# Altium footprint library 音频接口.PcbLib: 10 footprints
Each footprint in its own frame and in the unit in brackets; x right, y up, seen from the top. Pads: shape width x height; smd on the part's side, far side on the other; paste and mask are expansions set on the pad; w line width, h text height; cw(c..) or ccw(c..) is an arc to the next point about the centre after c.
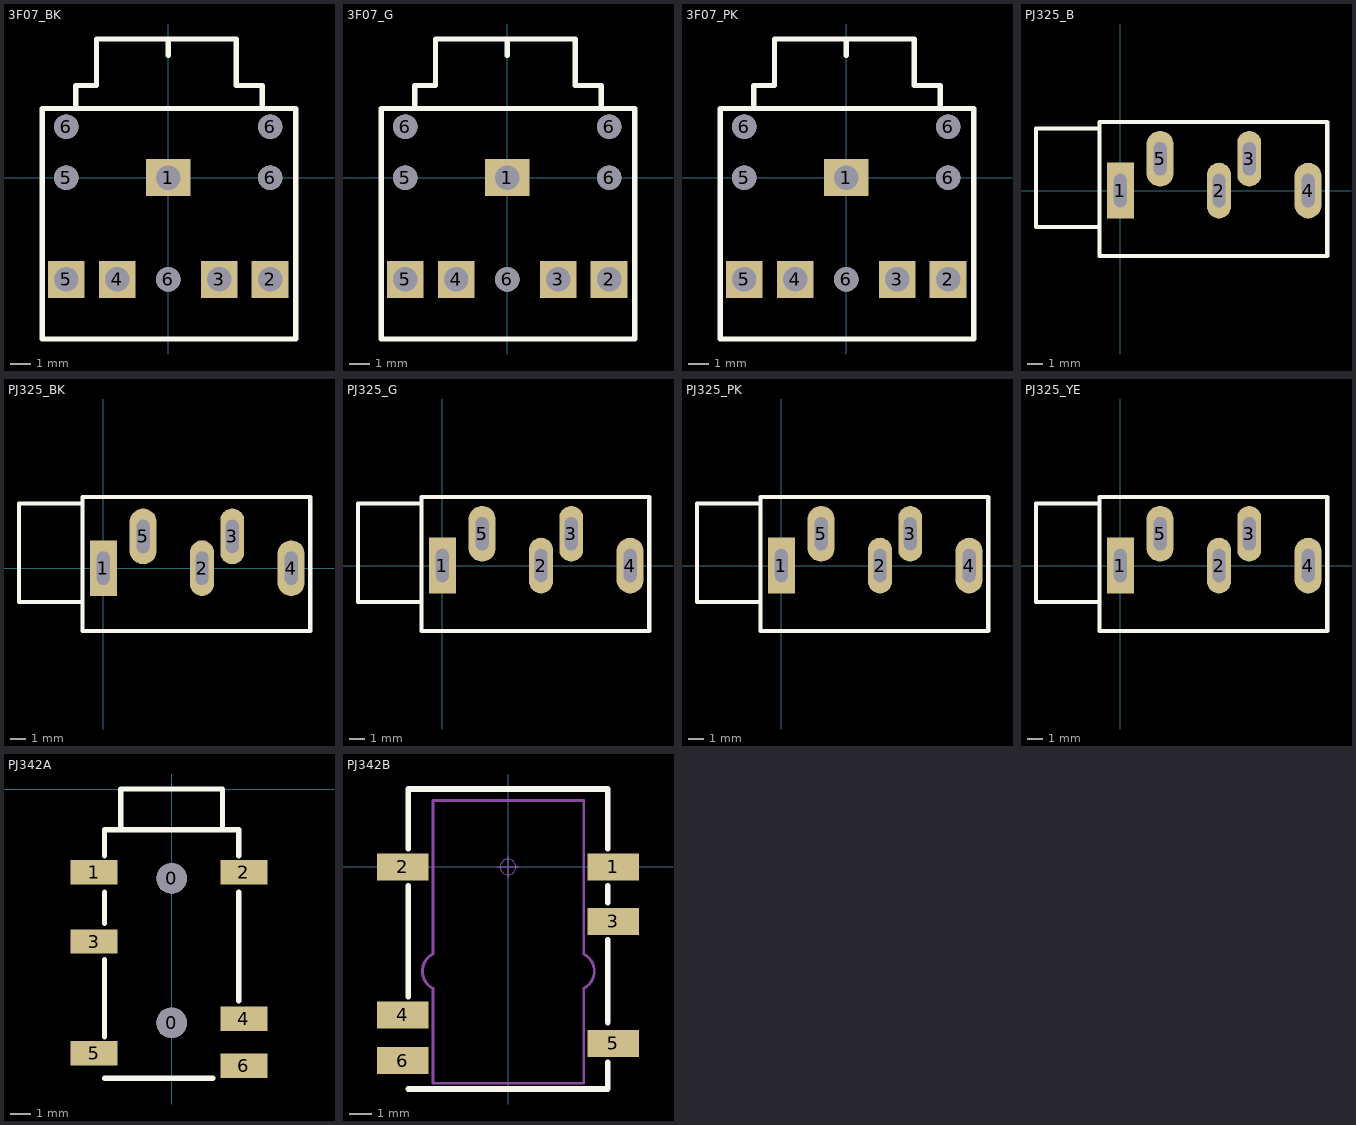
[diagram p0: the footprints below, top view; thin cyan lines are the x and y axes]

## 3F07_BK [mm] "黑色，14.2*12*5mm"
pads (10):
  rect 2.2x1.8 hole 1.2: 1(0,0)
  rect 1.8x1.8 hole 1.2: 2(5,-5) 3(2.5,-5) 4(-2.5,-5) 5(-5,-5)
  round 1.2 hole 1.2 unplated: 5(-5,0) 6(-5,2.5) 6(0,-5) 6(5,0) 6(5,2.5)
Top Overlay:
  lines w0.254: -4.532,3.382 -4.532,4.525 -3.516,4.525 -3.516,6.8 3.342,6.8 3.342,4.525 4.612,4.525 4.612,3.382 ; 0,6 0,6.8 ; -6.183,-7.921 -6.183,3.382 6.263,3.382 6.263,-7.921 -6.183,-7.921
3D body: height 5.6, standoff -2.9, extent -6,-7.7 6,6.5

## 3F07_G [mm] "绿色，14.2*12*5mm"
pads (10):
  rect 2.2x1.8 hole 1.2: 1(0,0)
  rect 1.8x1.8 hole 1.2: 2(5,-5) 3(2.5,-5) 4(-2.5,-5) 5(-5,-5)
  round 1.2 hole 1.2 unplated: 5(-5,0) 6(-5,2.5) 6(0,-5) 6(5,0) 6(5,2.5)
Top Overlay:
  lines w0.254: -4.532,3.382 -4.532,4.525 -3.516,4.525 -3.516,6.8 3.342,6.8 3.342,4.525 4.612,4.525 4.612,3.382 ; 0,6 0,6.8 ; -6.183,-7.921 -6.183,3.382 6.263,3.382 6.263,-7.921 -6.183,-7.921
3D body: height 5.6, standoff -2.9, extent -6,-7.7 6,6.5

## 3F07_PK [mm] "粉色，14.2*12*5mm"
pads (10):
  rect 2.2x1.8 hole 1.2: 1(0,0)
  rect 1.8x1.8 hole 1.2: 2(5,-5) 3(2.5,-5) 4(-2.5,-5) 5(-5,-5)
  round 1.2 hole 1.2 unplated: 5(-5,0) 6(-5,2.5) 6(0,-5) 6(5,0) 6(5,2.5)
Top Overlay:
  lines w0.254: -4.532,3.382 -4.532,4.525 -3.516,4.525 -3.516,6.8 3.342,6.8 3.342,4.525 4.612,4.525 4.612,3.382 ; 0,6 0,6.8 ; -6.183,-7.921 -6.183,3.382 6.263,3.382 6.263,-7.921 -6.183,-7.921
3D body: height 5.6, standoff -2.9, extent -6,-7.7 6,6.5

## PJ325_B [mm] "蓝色，18*8.1*12.3mm"
pads (5):
  rect 1.7x3.5 hole 0.8 slot 2.1 at 90 deg: 1(0,0)
  oval 1.5x3.5 hole 0.8 slot 2.1 at 90 deg: 2(6.2,0) 3(8.1,2)
  oval 1.7x3.5 hole 0.8 slot 2.1 at 90 deg: 4(11.8,0) 5(2.5,2)
Top Overlay:
  lines w0.254: -1.3,-2.3 -5.3,-2.3 -5.3,3.9 -1.3,3.9 ; -1.3,-4.1 13,-4.1 13,4.3 -1.3,4.3 -1.3,-4.1
3D body: height 12.35, standoff -2.9, extent -5.23,-3.9 12.8,4.2

## PJ325_BK [mm] "黑色，18*8.1*12.3mm"
pads (5):
  rect 1.7x3.5 hole 0.8 slot 2.1 at 90 deg: 1(0,0)
  oval 1.5x3.5 hole 0.8 slot 2.1 at 90 deg: 2(6.2,0) 3(8.1,2)
  oval 1.7x3.5 hole 0.8 slot 2.1 at 90 deg: 4(11.8,0) 5(2.5,2)
Top Overlay:
  lines w0.254: -1.3,-2.136 -5.3,-2.136 -5.3,4.064 -1.3,4.064 ; -1.3,-3.936 13,-3.936 13,4.464 -1.3,4.464 -1.3,-3.936
3D body: height 12.35, standoff -2.9, extent -5.23,-3.9 12.8,4.2

## PJ325_G [mm] "绿色，18*8.1*12.3mm"
pads (5):
  rect 1.7x3.5 hole 0.8 slot 2.1 at 90 deg: 1(0,0)
  oval 1.5x3.5 hole 0.8 slot 2.1 at 90 deg: 2(6.2,0) 3(8.1,2)
  oval 1.7x3.5 hole 0.8 slot 2.1 at 90 deg: 4(11.8,0) 5(2.5,2)
Top Overlay:
  lines w0.254: -1.3,-2.3 -5.3,-2.3 -5.3,3.9 -1.3,3.9 ; -1.3,-4.1 -1.3,4.3 13,4.3 13,-4.1 -1.3,-4.1
3D body: height 12.35, standoff -2.9, extent -5.23,-3.9 12.8,4.2

## PJ325_PK [mm] "粉色，18*8.1*12.3mm"
pads (5):
  rect 1.7x3.5 hole 0.8 slot 2.1 at 90 deg: 1(0,0)
  oval 1.5x3.5 hole 0.8 slot 2.1 at 90 deg: 2(6.2,0) 3(8.1,2)
  oval 1.7x3.5 hole 0.8 slot 2.1 at 90 deg: 4(11.8,0) 5(2.5,2)
Top Overlay:
  lines w0.254: -1.3,-2.3 -5.3,-2.3 -5.3,3.9 -1.3,3.9 ; -1.3,-4.1 13,-4.1 13,4.3 -1.3,4.3 -1.3,-4.1
3D body: height 12.35, standoff -2.9, extent -5.23,-3.9 12.8,4.2

## PJ325_YE [mm] "黄色，18*8.1*12.3mm"
pads (5):
  rect 1.7x3.5 hole 0.8 slot 2.1 at 90 deg: 1(0,0)
  oval 1.5x3.5 hole 0.8 slot 2.1 at 90 deg: 2(6.2,0) 3(8.1,2)
  oval 1.7x3.5 hole 0.8 slot 2.1 at 90 deg: 4(11.8,0) 5(2.5,2)
Top Overlay:
  lines w0.254: -1.3,-2.3 -5.3,-2.3 -5.3,3.9 -1.3,3.9 ; -1.3,-4.1 13,-4.1 13,4.3 -1.3,4.3 -1.3,-4.1
3D body: height 12.35, standoff -2.9, extent -5.23,-3.9 12.8,4.2

## PJ342A [mm] "有头"
pads (8):
  round 1.5 hole 1.5: 0(0,-11.5) 0(0,-4.4)
  rect 2.3x1.2 smd: 1(-3.81,-4.1) 2(3.556,-4.1) 3(-3.81,-7.5) 4(3.556,-11.3) 5(-3.81,-13) 6(3.556,-13.6)
Top Overlay:
  lines w0.254: -3.302,-14.224 2.032,-14.224 ; -3.302,-12.192 -3.302,-8.382 ; -3.302,-6.604 -3.302,-5.08 ; -3.302,-3.302 -3.302,-2 3.302,-2 3.302,-3.302 ; -2.5,-2 -2.5,0 2.5,0 2.5,-2 ; 3.302,-10.414 3.302,-5.08
3D body: height 4.7, standoff -0.6, extent -4.15,-14.1 4.15,0

## PJ342B [mm] "沉板式，无头"
pads (6):
  rect 2.3x1.2 smd: 1(4.699,0) 2(-4.699,0) 3(4.699,-2.43) 4(-4.699,-6.604) 5(4.699,-7.874) 6(-4.699,-8.636)
Top Overlay:
  lines w0.254: -4.445,-9.906 4.445,-9.906 4.445,-9.476 4.445,-8.714 ; -4.445,-5.793 -4.445,-0.84 ; -4.445,0.811 -4.445,3.478 4.445,3.478 4.445,0.811 ; 4.445,-6.936 4.445,-3.253 ; 4.445,-1.602 4.445,-0.84
Mechanical 1:
  lines w0.127: -3.353,-9.652 3.378,-9.652 3.378,-5.412 ccw(c2.997,-4.65) 3.378,-3.888 3.378,2.97 -3.353,2.97 -3.353,-3.888 ccw(c-2.972,-4.65) -3.353,-5.412 -3.353,-9.652
Mechanical 15:
  circle w0.05: c0,0 r0.35
  lines w0.05: -0.5,0 0.5,0 ; 0,-0.5 0,0.5
3D body: height 1.25, standoff -2.75, extent -4.75,-9.25 4.75,3.732